# Altium schematic symbol library 3M EML RX ANTENNA.Schlib: 1 symbol
Pins are listed as number, name and electrical type; pins without a type are passive.

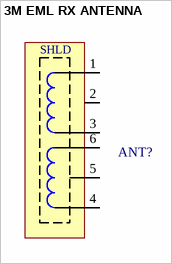
[diagram p0: symbol 3M EML RX ANTENNA]

## 3M EML RX ANTENNA
designator ANT?
pins: 1, 2 NC, 3, 4, 5 SHIELD, 6
text: SHLD